# EAGLE library part 768201*G (library cts)
50V Maxumum Connect Resistor 1, terminal 2 to common signal
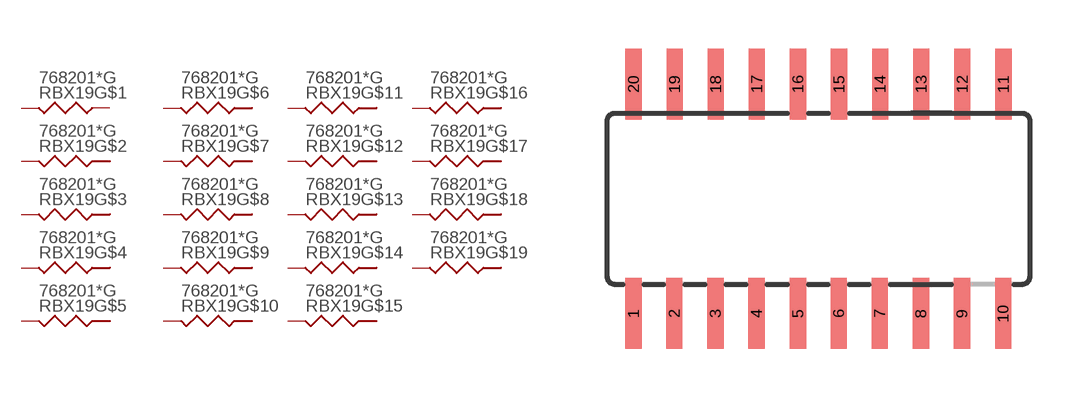
[diagram p2: symbol with the pads of SOP20; footprint SOP20]

Designator prefix RBX19; gates G$1=RESISTOR G$2=BUSSED G$3=BUSSED G$4=BUSSED G$5=BUSSED G$6=BUSSED G$7=BUSSED G$8=BUSSED G$9=BUSSED G$10=BUSSED G$11=BUSSED G$12=BUSSED G$13=BUSSED G$14=BUSSED G$15=BUSSED G$16=BUSSED G$17=BUSSED G$18=BUSSED G$19=BUSSED

## 768201G, 768201000G, 768201100G, 768201101G, 768201102G, 768201103G, 768201104G, 768201105G, 768201111G, 768201112G, 768201113G, 768201114G, 768201120G, 768201121G, 768201123G, 768201124G, 768201150G, 768201151G, 768201152G, 768201153G, 768201154G, 768201180G, 768201181G, 768201182G, 768201183G, 768201184G, 768201201G, 768201202G, 768201203G, 768201204G, 768201220G, 768201221G, 768201222G, 768201223G, 768201224G, 768201270G, 768201271G, 768201272G, 768201273G, 768201274G, 768201330G, 768201331G, 768201332G, 768201333G, 768201334G, 768201390G, 768201391G, 768201392G, 768201393G, 768201394G, 768201470G, 768201471G, 768201472G, 768201473G, 768201474G, 768201510G, 768201511G, 768201512G, 768201560G, 768201561G, 768201562G, 768201563G, 768201564G, 768201680G, 768201681G, 768201682G, 768201683G, 768201684G, 768201820G, 768201821G, 768201822G, 768201823G, 768201824G  [SOP20]
1  G$1:1  pas
2  G$2:2  pas
3  G$3:2  pas
4  G$4:2  pas
5  G$5:2  pas
6  G$6:2  pas
7  G$7:2  pas
8  G$8:2  pas
9  G$9:2  pas
10  G$10:2  pas
11  G$11:2  pas
12  G$12:2  pas
13  G$13:2  pas
14  G$14:2  pas
15  G$15:2  pas
16  G$16:2  pas
17  G$17:2  pas
18  G$18:2  pas
19  G$19:2  pas
20  G$1:2  pas

## Footprint SOP20 (pad centres in mm)
smd 0.5 x 2.2: 1 0,-0.375; 2 1.26,-0.375; 3 2.53,-0.375; 4 3.8,-0.375; 5 5.08,-0.375; 6 6.34,-0.375; 7 7.61,-0.375; 8 8.88,-0.375; 9 10.15,-0.375; 10 11.42,-0.375; 11 11.43,6.725; 12 10.16,6.725; 13 8.89,6.725; 14 7.62,6.725; 15 6.35,6.725; 16 5.08,6.725; 17 3.81,6.725; 18 2.54,6.725; 19 1.27,6.725; 20 0,6.725